# Altium schematic symbol library 1217133-1.SchLib: 1 symbol
Pins are listed as number, name and electrical type; pins without a type are passive.

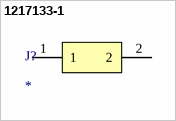
[diagram p0: symbol 1217133-1]

## 1217133-1
designator J?
pins: 1, 2